# Altium schematic symbol library AltiumDesigner.SchLib: 2 symbols
Pins are listed as number, name and electrical type; pins without a type are passive.

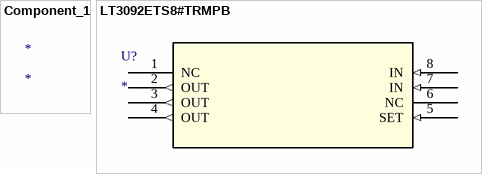
[diagram p0: symbols Component_1 to LT3092ETS8#TRMPB]

## Component_1
designator *

## LT3092ETS8#TRMPB
designator U?
Imported; Manufacturer_Part_Number: LT3092ETS8#TRMPBF; Vendor: Linear Technology; Value: Value; Type: Type; RefDes: RefDes
footprint TSOT-23_TS8
pins: 1 NC, 2 OUT (out), 3 OUT (out), 4 OUT (out), 5 SET (in), 6 NC, 7 IN (in), 8 IN (in)